# Altium integrated library Module.IntLib: 11 symbols
Pins are listed as number, name and electrical type; pins without a type are passive.

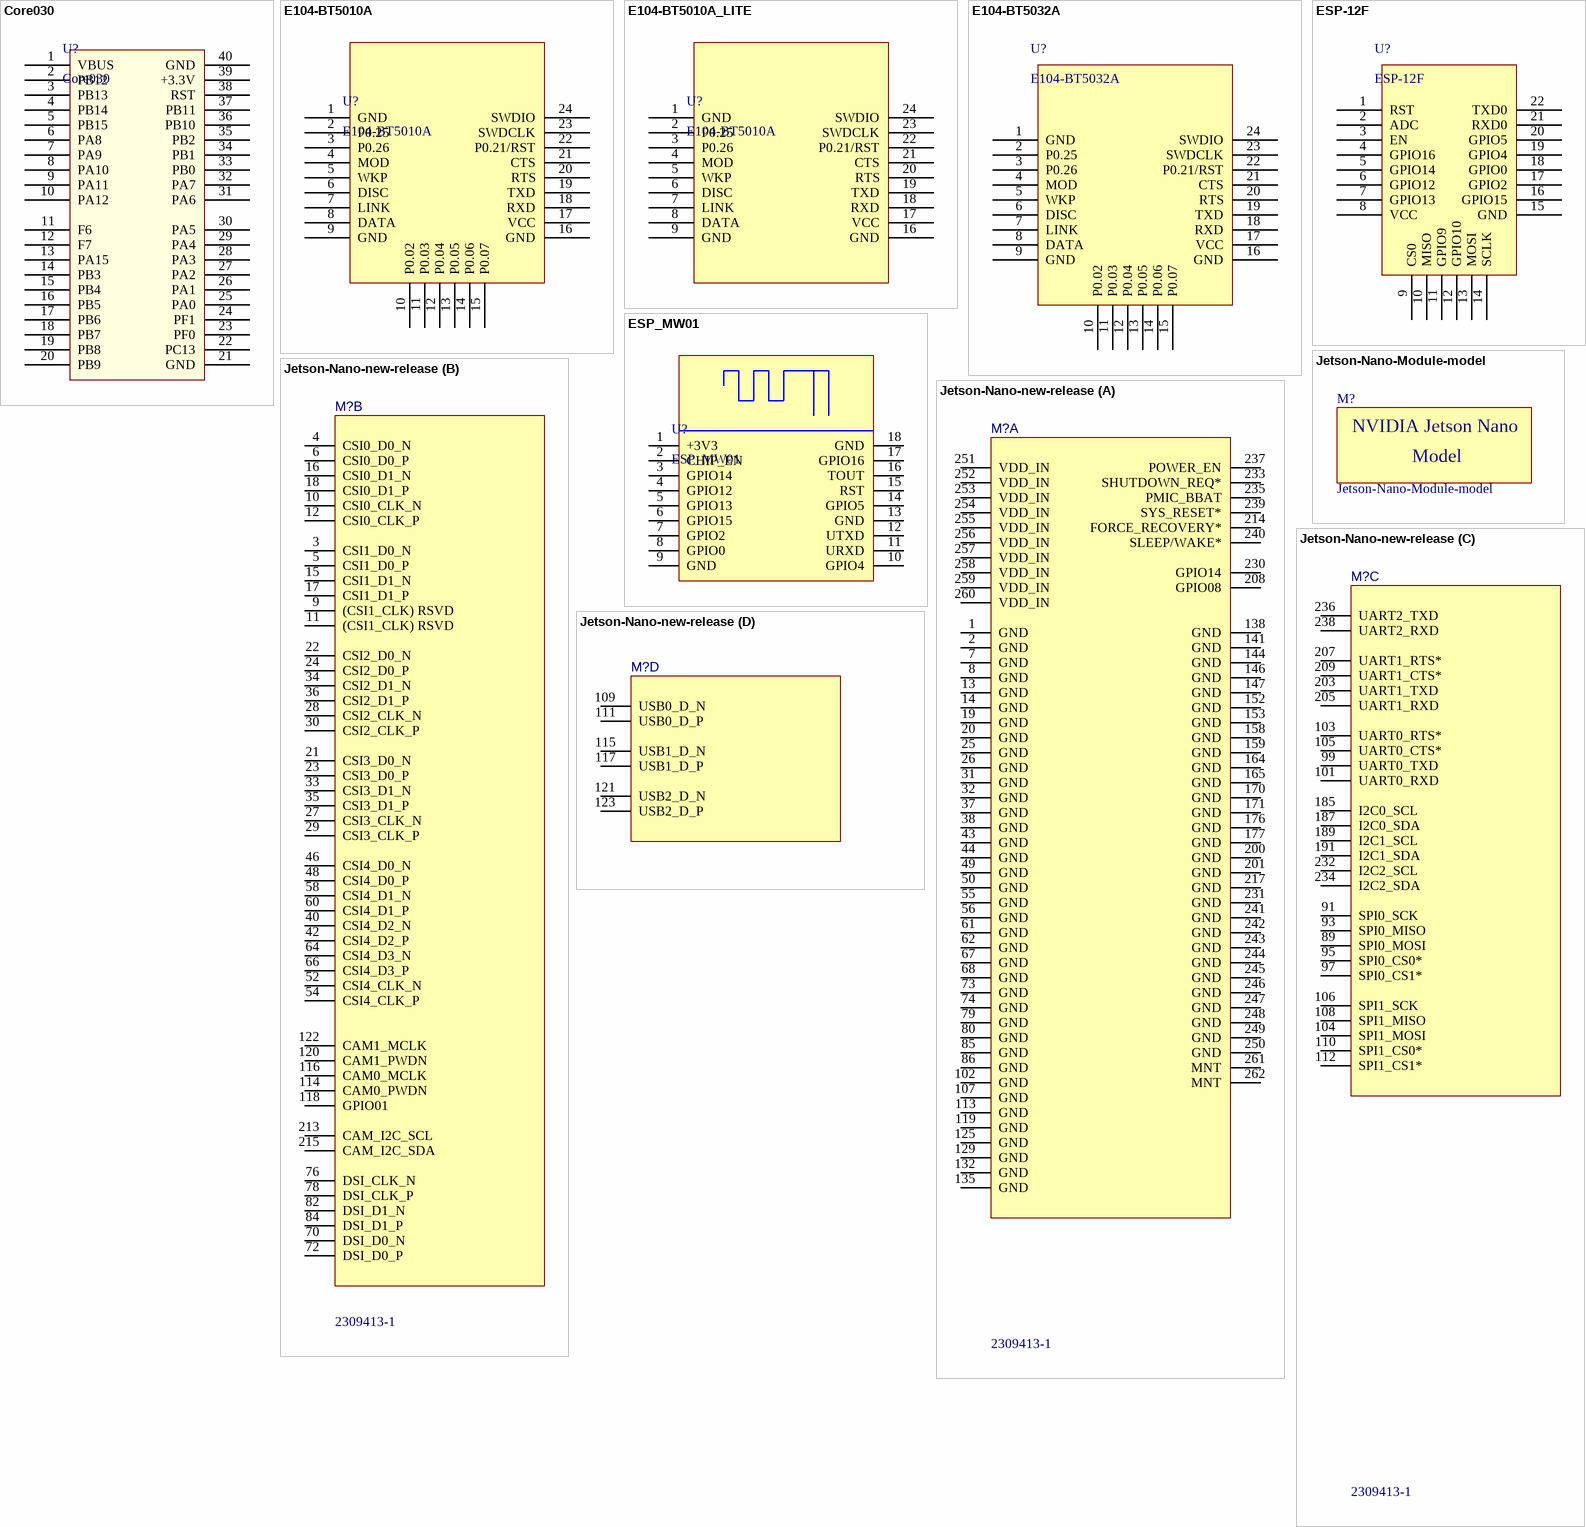
[diagram p0: symbols Core030 to Jetson-Nano-new-release]

## Core030
designator U?
footprint Core030_THT
pins: 1 VBUS, 2 PB12, 3 PB13, 4 PB14, 5 PB15, 6 PA8, 7 PA9, 8 PA10, 9 PA11, 10 PA12, 11 F6, 12 F7, 13 PA15, 14 PB3, 15 PB4, 16 PB5, 17 PB6, 18 PB7, 19 PB8, 20 PB9, 21 GND, 22 PC13, 23 PF0, 24 PF1, 25 PA0, 26 PA1, 27 PA2, 28 PA3, 29 PA4, 30 PA5, 31 PA6, 32 PA7, 33 PB0, 34 PB1, 35 PB2, 36 PB10, 37 PB11, 38 RST, 39 +3.3V, 40 GND

## E104-BT5010A
designator U?
eByte nRF52810 BLE module with AT commands
footprint E104-BT5010A
pins: 1 GND, 2 P0.25, 3 P0.26, 4 MOD, 5 WKP, 6 DISC, 7 LINK, 8 DATA, 9 GND, 10 P0.02, 11 P0.03, 12 P0.04, 13 P0.05, 14 P0.06, 15 P0.07, 16 GND, 17 VCC, 18 RXD, 19 TXD, 20 RTS, 21 CTS, 22 P0.21/RST, 23 SWDCLK, 24 SWDIO

## E104-BT5010A_LITE
designator U?, comment E104-BT5010A
eByte nRF52810 BLE module with AT commands
footprint E104-BT5010A_Lite
pins: 1 GND, 2 P0.25, 3 P0.26, 4 MOD, 5 WKP, 6 DISC, 7 LINK, 8 DATA, 9 GND, 16 GND, 17 VCC, 18 RXD, 19 TXD, 20 RTS, 21 CTS, 22 P0.21/RST, 23 SWDCLK, 24 SWDIO

## E104-BT5032A
designator U?
eByte nRF52832 BLE module with AT commands
footprint E104-BT5032A
pins: 1 GND, 2 P0.25, 3 P0.26, 4 MOD, 5 WKP, 6 DISC, 7 LINK, 8 DATA, 9 GND, 10 P0.02, 11 P0.03, 12 P0.04, 13 P0.05, 14 P0.06, 15 P0.07, 16 GND, 17 VCC, 18 RXD, 19 TXD, 20 RTS, 21 CTS, 22 P0.21/RST, 23 SWDCLK, 24 SWDIO

## ESP-12F
designator U?
AiThinker ESP-12F ESP8266 wifi uart module
footprint ESP-12F
pins: 1 RST, 2 ADC, 3 EN, 4 GPIO16, 5 GPIO14, 6 GPIO12, 7 GPIO13, 8 VCC, 9 CS0, 10 MISO, 11 GPIO9, 12 GPIO10, 13 MOSI, 14 SCLK, 15 GND, 16 GPIO15, 17 GPIO2, 18 GPIO0, 19 GPIO4, 20 GPIO5, 21 RXD0, 22 TXD0

## ESP_MW01
designator U?
ESP8266 module designed by Maiwei
footprint ESP_MW01_SMT
footprint ESP_MW01_THT
pins: 1 +3V3, 2 CHIP_EN, 3 GPIO14, 4 GPIO12, 5 GPIO13, 6 GPIO15, 7 GPIO2, 8 GPIO0, 9 GND, 10 GPIO4, 11 URXD, 12 UTXD, 13 GND, 14 GPIO5, 15 RST, 16 TOUT, 17 GPIO16, 18 GND

## Jetson-Nano-Module-model
designator M?
PartNumber: jetson-nano-module
footprint jetson-nano-module
text: NVIDIA Jetson Nano; Model

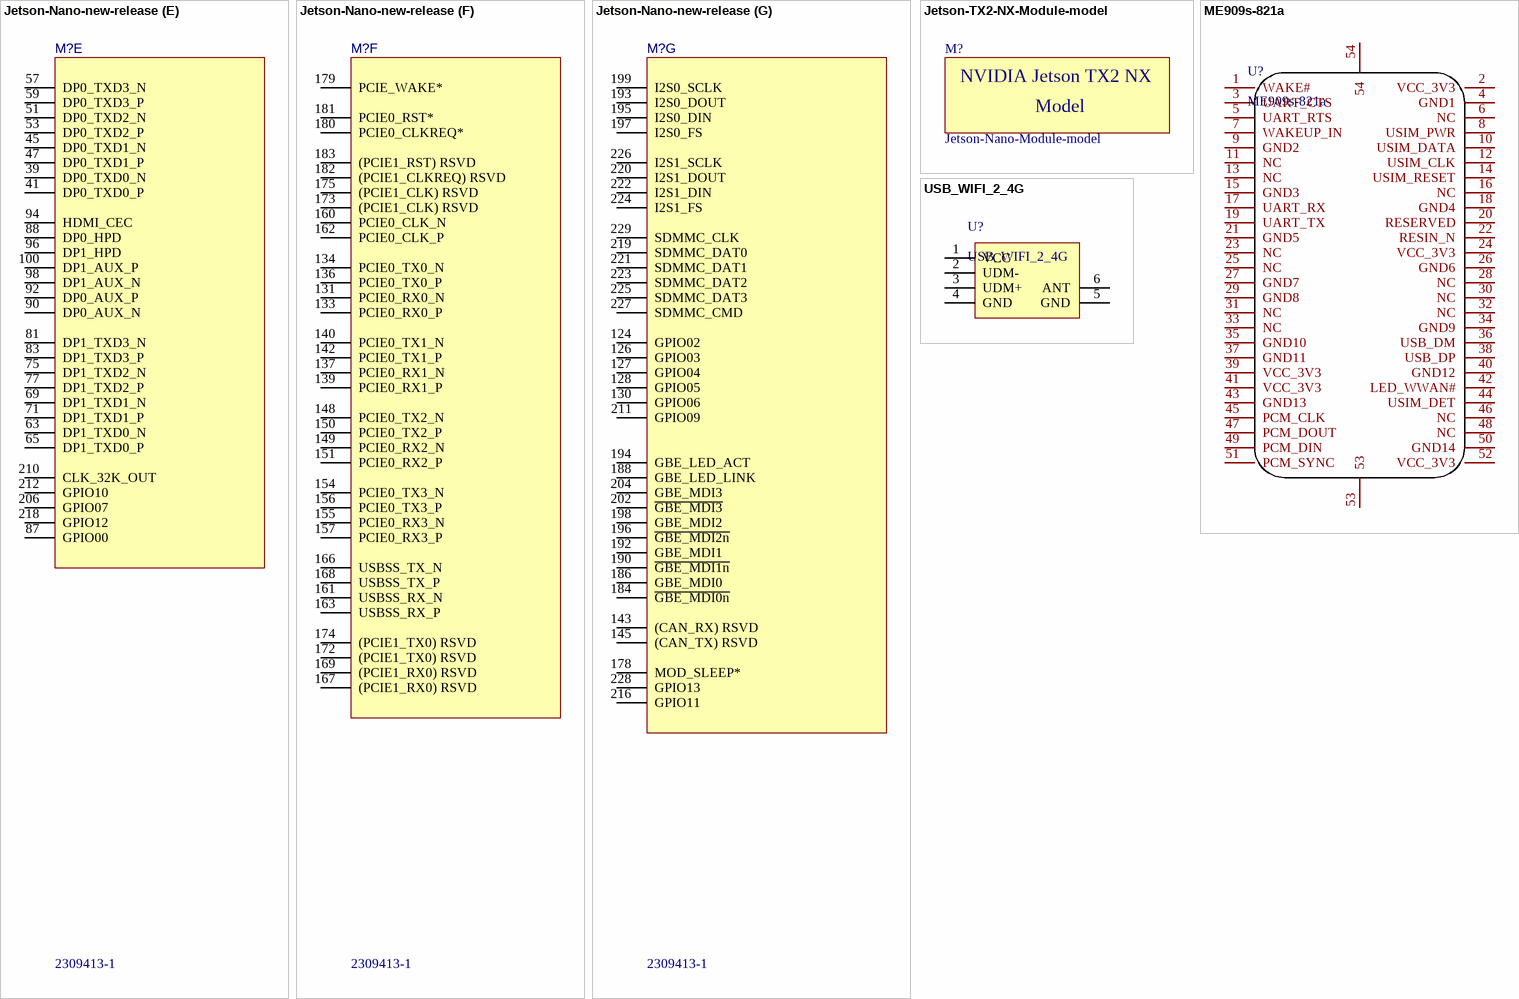
[diagram p1: symbols Jetson-Nano-new-release to USB_WIFI_2_4G]

## Jetson-Nano-new-release
designator M?, comment 2309413-1
Manufacturer: TE Connectivity; PartNumber: 2309413-1; PartSymbol: 2309413-1; Value: 2309413-1
footprint jetson-nano-connector
part A pins: 1 GND, 2 GND, 7 GND, 8 GND, 13 GND, 14 GND, 19 GND, 20 GND, 25 GND, 26 GND, 31 GND, 32 GND, 37 GND, 38 GND, 43 GND, 44 GND, 49 GND, 50 GND, 55 GND, 56 GND, 61 GND, 62 GND, 67 GND, 68 GND, 73 GND, 74 GND, 79 GND, 80 GND, 85 GND, 86 GND, 102 GND, 107 GND, 113 GND, 119 GND, 125 GND, 129 GND, 132 GND, 135 GND, 138 GND, 141 GND, 144 GND, 146 GND, 147 GND, 152 GND, 153 GND, 158 GND, 159 GND, 164 GND, 165 GND, 170 GND, 171 GND, 176 GND, 177 GND, 200 GND, 201 GND, 208 GPIO08, 214 FORCE_RECOVERY*, 217 GND, 230 GPIO14, 231 GND, 233 SHUTDOWN_REQ*, 235 PMIC_BBAT, 237 POWER_EN, 239 SYS_RESET*, 240 SLEEP/WAKE*, 241 GND, 242 GND, 243 GND, 244 GND, 245 GND, 246 GND, 247 GND, 248 GND, 249 GND, 250 GND, 251 VDD_IN, 252 VDD_IN, 253 VDD_IN, 254 VDD_IN, 255 VDD_IN, 256 VDD_IN, 257 VDD_IN, 258 VDD_IN, 259 VDD_IN, 260 VDD_IN, 261 MNT, 262 MNT
part B pins: 3 CSI1_D0_N, 4 CSI0_D0_N, 5 CSI1_D0_P, 6 CSI0_D0_P, 9 (CSI1_CLK) RSVD, 10 CSI0_CLK_N, 11 (CSI1_CLK) RSVD, 12 CSI0_CLK_P, 15 CSI1_D1_N, 16 CSI0_D1_N, 17 CSI1_D1_P, 18 CSI0_D1_P, 21 CSI3_D0_N, 22 CSI2_D0_N, 23 CSI3_D0_P, 24 CSI2_D0_P, 27 CSI3_CLK_N, 28 CSI2_CLK_N, 29 CSI3_CLK_P, 30 CSI2_CLK_P, 33 CSI3_D1_N, 34 CSI2_D1_N, 35 CSI3_D1_P, 36 CSI2_D1_P, 40 CSI4_D2_N, 42 CSI4_D2_P, 46 CSI4_D0_N, 48 CSI4_D0_P, 52 CSI4_CLK_N, 54 CSI4_CLK_P, 58 CSI4_D1_N, 60 CSI4_D1_P, 64 CSI4_D3_N, 66 CSI4_D3_P, 70 DSI_D0_N, 72 DSI_D0_P, 76 DSI_CLK_N, 78 DSI_CLK_P, 82 DSI_D1_N, 84 DSI_D1_P, 114 CAM0_PWDN, 116 CAM0_MCLK, 118 GPIO01, 120 CAM1_PWDN, 122 CAM1_MCLK, 213 CAM_I2C_SCL, 215 CAM_I2C_SDA
part C pins: 89 SPI0_MOSI, 91 SPI0_SCK, 93 SPI0_MISO, 95 SPI0_CS0*, 97 SPI0_CS1*, 99 UART0_TXD, 101 UART0_RXD, 103 UART0_RTS*, 104 SPI1_MOSI, 105 UART0_CTS*, 106 SPI1_SCK, 108 SPI1_MISO, 110 SPI1_CS0*, 112 SPI1_CS1*, 185 I2C0_SCL, 187 I2C0_SDA, 189 I2C1_SCL, 191 I2C1_SDA, 203 UART1_TXD, 205 UART1_RXD, 207 UART1_RTS*, 209 UART1_CTS*, 232 I2C2_SCL, 234 I2C2_SDA, 236 UART2_TXD, 238 UART2_RXD
part D pins: 109 USB0_D_N, 111 USB0_D_P, 115 USB1_D_N, 117 USB1_D_P, 121 USB2_D_N, 123 USB2_D_P
part E pins: 39 DP0_TXD0_N, 41 DP0_TXD0_P, 45 DP0_TXD1_N, 47 DP0_TXD1_P, 51 DP0_TXD2_N, 53 DP0_TXD2_P, 57 DP0_TXD3_N, 59 DP0_TXD3_P, 63 DP1_TXD0_N, 65 DP1_TXD0_P, 69 DP1_TXD1_N, 71 DP1_TXD1_P, 75 DP1_TXD2_N, 77 DP1_TXD2_P, 81 DP1_TXD3_N, 83 DP1_TXD3_P, 87 GPIO00, 88 DP0_HPD, 90 DP0_AUX_N, 92 DP0_AUX_P, 94 HDMI_CEC, 96 DP1_HPD, 98 DP1_AUX_N, 100 DP1_AUX_P, 206 GPIO07, 210 CLK_32K_OUT, 212 GPIO10, 218 GPIO12
part F pins: 131 PCIE0_RX0_N, 133 PCIE0_RX0_P, 134 PCIE0_TX0_N, 136 PCIE0_TX0_P, 137 PCIE0_RX1_N, 139 PCIE0_RX1_P, 140 PCIE0_TX1_N, 142 PCIE0_TX1_P, 148 PCIE0_TX2_N, 149 PCIE0_RX2_N, 150 PCIE0_TX2_P, 151 PCIE0_RX2_P, 154 PCIE0_TX3_N, 155 PCIE0_RX3_N, 156 PCIE0_TX3_P, 157 PCIE0_RX3_P, 160 PCIE0_CLK_N, 161 USBSS_RX_N, 162 PCIE0_CLK_P, 163 USBSS_RX_P, 166 USBSS_TX_N, 167 (PCIE1_RX0) RSVD, 168 USBSS_TX_P, 169 (PCIE1_RX0) RSVD, 172 (PCIE1_TX0) RSVD, 173 (PCIE1_CLK) RSVD, 174 (PCIE1_TX0) RSVD, 175 (PCIE1_CLK) RSVD, 179 PCIE_WAKE*, 180 PCIE0_CLKREQ*, 181 PCIE0_RST*, 182 (PCIE1_CLKREQ) RSVD, 183 (PCIE1_RST) RSVD
part G pins: 124 GPIO02, 126 GPIO03, 127 GPIO04, 128 GPIO05, 130 GPIO06, 143 (CAN_RX) RSVD, 145 (CAN_TX) RSVD, 178 MOD_SLEEP*, 184 ~{GBE_MDI0n}, 186 GBE_MDI0, 188 GBE_LED_LINK, 190 ~{GBE_MDI1n}, 192 GBE_MDI1, 193 I2S0_DOUT, 194 GBE_LED_ACT, 195 I2S0_DIN, 196 ~{GBE_MDI2n}, 197 I2S0_FS, 198 GBE_MDI2, 199 I2S0_SCLK, 202 ~{GBE_MDI3}, 204 GBE_MDI3, 211 GPIO09, 216 GPIO11, 219 SDMMC_DAT0, 220 I2S1_DOUT, 221 SDMMC_DAT1, 222 I2S1_DIN, 223 SDMMC_DAT2, 224 I2S1_FS, 225 SDMMC_DAT3, 226 I2S1_SCLK, 227 SDMMC_CMD, 228 GPIO13, 229 SDMMC_CLK

## Jetson-TX2-NX-Module-model
designator M?, comment Jetson-Nano-Module-model
PartNumber: jetson-nano-module
footprint jetson-tx2-nx-module
text: NVIDIA Jetson TX2 NX; Model

## ME909s-821a
designator U?
HUAWEI ME909s-821ap V2 LTE Mini PCIe 模块
footprint ME909s-821a
pins: 1 WAKE#, 2 VCC_3V3, 3 UART_CTS, 4 GND1, 5 UART_RTS, 6 NC, 7 WAKEUP_IN, 8 USIM_PWR, 9 GND2, 10 USIM_DATA, 11 NC, 12 USIM_CLK, 13 NC, 14 USIM_RESET, 15 GND3, 16 NC, 17 UART_RX, 18 GND4, 19 UART_TX, 20 RESERVED, 21 GND5, 22 RESIN_N, 23 NC, 24 VCC_3V3, 25 NC, 26 GND6, 27 GND7, 28 NC, 29 GND8, 30 NC, 31 NC, 32 NC, 33 NC, 34 GND9, 35 GND10, 36 USB_DM, 37 GND11, 38 USB_DP, 39 VCC_3V3, 40 GND12, 41 VCC_3V3, 42 LED_WWAN#, 43 GND13, 44 USIM_DET, 45 PCM_CLK, 46 NC, 47 PCM_DOUT, 48 NC, 49 PCM_DIN, 50 GND14, 51 PCM_SYNC, 52 VCC_3V3, 53, 54

## USB_WIFI_2_4G
designator U?
footprint USB_WIFI_2_4G
pins: 1 VCC, 2 UDM-, 3 UDM+, 4 GND, 5 GND, 6 ANT